# Altium footprint library SSL-2020-PcbLib1.PcbLib: 31 footprints (part 2 of 2)
Each footprint in its own frame and in the unit in brackets; x right, y up, seen from the top. Pads: shape width x height; smd on the part's side, far side on the other; paste and mask are expansions set on the pad; w line width, h text height; cw(c..) or ccw(c..) is an arc to the next point about the centre after c.
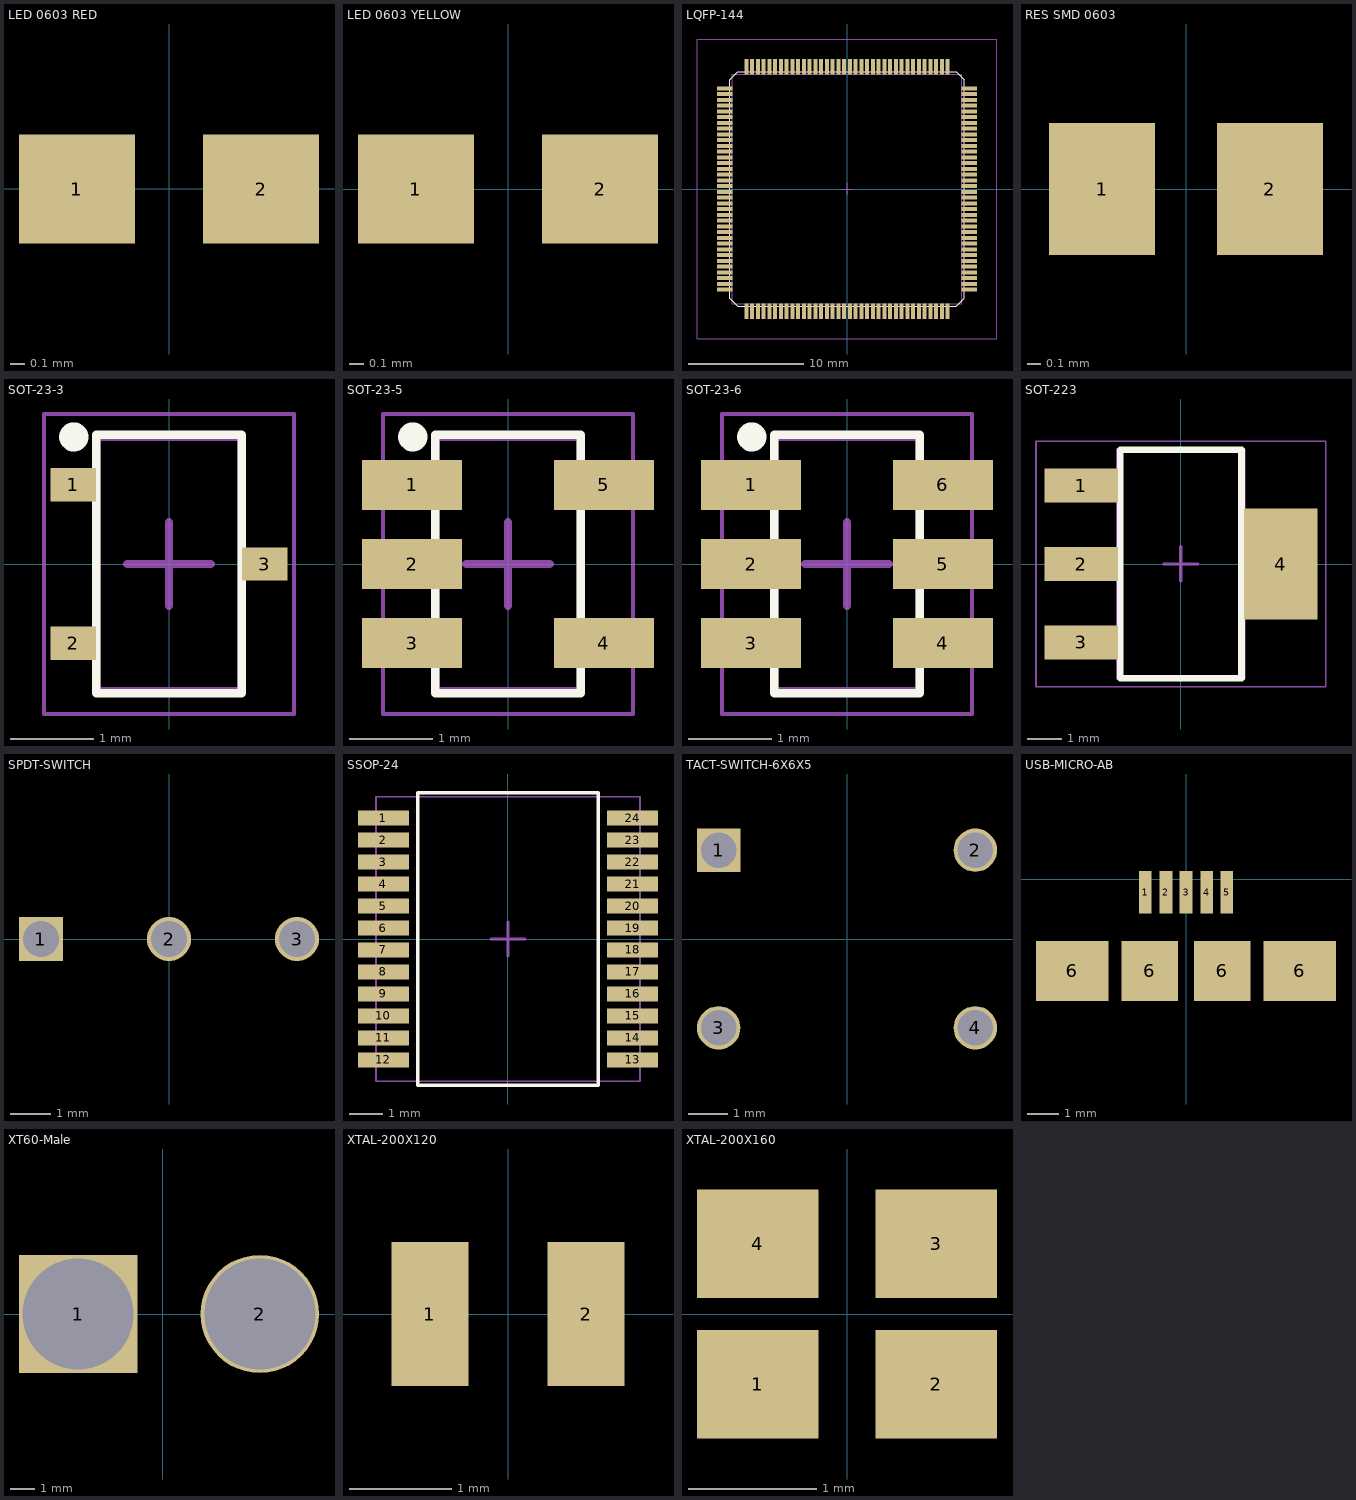
[diagram p1: the footprints below, top view; thin cyan lines are the x and y axes]

## LED 0603 RED [mm]
pads (2):
  rect 0.8x0.75 smd mask+0.05: 1(-0.635,0) 2(0.635,0)
3D body "LED_0603_R.STEP": height 0.6, standoff 0, extent -0.8,-0.4 0.8,0.4

## LED 0603 YELLOW [mm]
pads (2):
  rect 0.8x0.75 smd mask+0.05: 1(-0.635,0) 2(0.635,0)
3D body "LED_0603_Y.STEP": height 0.6, standoff 0, extent -0.8,-0.4 0.8,0.4

## LQFP-144 [mm]
height 1.6
pads (144):
  rect 1.35x0.35 smd: 1(-10.625,8.75) 2(-10.625,8.25) 3(-10.625,7.75) 4(-10.625,7.25) 5(-10.625,6.75) 6(-10.625,6.25) 7(-10.625,5.75) 8(-10.625,5.25) 9(-10.625,4.75) 10(-10.625,4.25) 11(-10.625,3.75) 12(-10.625,3.25) 13(-10.625,2.75) 14(-10.625,2.25) 15(-10.625,1.75) 16(-10.625,1.25) 17(-10.625,0.75) 18(-10.625,0.25) 19(-10.625,-0.25) 20(-10.625,-0.75) 21(-10.625,-1.25) 22(-10.625,-1.75) 23(-10.625,-2.25) 24(-10.625,-2.75) 25(-10.625,-3.25) 26(-10.625,-3.75) 27(-10.625,-4.25) 28(-10.625,-4.75) 29(-10.625,-5.25) 30(-10.625,-5.75) 31(-10.625,-6.25) 32(-10.625,-6.75) 33(-10.625,-7.25) 34(-10.625,-7.75) 35(-10.625,-8.25) 36(-10.625,-8.75) 73(10.625,-8.75) 74(10.625,-8.25) 75(10.625,-7.75) 76(10.625,-7.25) 77(10.625,-6.75) 78(10.625,-6.25) 79(10.625,-5.75) 80(10.625,-5.25) 81(10.625,-4.75) 82(10.625,-4.25) 83(10.625,-3.75) 84(10.625,-3.25) 85(10.625,-2.75) 86(10.625,-2.25) 87(10.625,-1.75) 88(10.625,-1.25) 89(10.625,-0.75) 90(10.625,-0.25) 91(10.625,0.25) 92(10.625,0.75) 93(10.625,1.25) 94(10.625,1.75) 95(10.625,2.25) 96(10.625,2.75) 97(10.625,3.25) 98(10.625,3.75) 99(10.625,4.25) 100(10.625,4.75) 101(10.625,5.25) 102(10.625,5.75) 103(10.625,6.25) 104(10.625,6.75) 105(10.625,7.25) 106(10.625,7.75) 107(10.625,8.25) 108(10.625,8.75)
  rect 0.35x1.35 smd: 37(-8.75,-10.625) 38(-8.25,-10.625) 39(-7.75,-10.625) 40(-7.25,-10.625) 41(-6.75,-10.625) 42(-6.25,-10.625) 43(-5.75,-10.625) 44(-5.25,-10.625) 45(-4.75,-10.625) 46(-4.25,-10.625) 47(-3.75,-10.625) 48(-3.25,-10.625) 49(-2.75,-10.625) 50(-2.25,-10.625) 51(-1.75,-10.625) 52(-1.25,-10.625) 53(-0.75,-10.625) 54(-0.25,-10.625) 55(0.25,-10.625) 56(0.75,-10.625) 57(1.25,-10.625) 58(1.75,-10.625) 59(2.25,-10.625) 60(2.75,-10.625) 61(3.25,-10.625) 62(3.75,-10.625) 63(4.25,-10.625) 64(4.75,-10.625) 65(5.25,-10.625) 66(5.75,-10.625) 67(6.25,-10.625) 68(6.75,-10.625) 69(7.25,-10.625) 70(7.75,-10.625) 71(8.25,-10.625) 72(8.75,-10.625) 109(8.75,10.625) 110(8.25,10.625) 111(7.75,10.625) 112(7.25,10.625) 113(6.75,10.625) 114(6.25,10.625) 115(5.75,10.625) 116(5.25,10.625) 117(4.75,10.625) 118(4.25,10.625) 119(3.75,10.625) 120(3.25,10.625) 121(2.75,10.625) 122(2.25,10.625) 123(1.75,10.625) 124(1.25,10.625) 125(0.75,10.625) 126(0.25,10.625) 127(-0.25,10.625) 128(-0.75,10.625) 129(-1.25,10.625) 130(-1.75,10.625) 131(-2.25,10.625) 132(-2.75,10.625) 133(-3.25,10.625) 134(-3.75,10.625) 135(-4.25,10.625) 136(-4.75,10.625) 137(-5.25,10.625) 138(-5.75,10.625) 139(-6.25,10.625) 140(-6.75,10.625) 141(-7.25,10.625) 142(-7.75,10.625) 143(-8.25,10.625) 144(-8.75,10.625)
Top Overlay:
  lines w0.1: -10.2,-9.485 -10.2,9.485 -9.485,10.2 9.485,10.2 10.2,9.485 10.2,-9.485 9.485,-10.2 -9.485,-10.2 -10.2,-9.485
Mechanical 13:
  lines w0.1: -10,-10 -10,10 10,10 10,-10 -10,-10
Mechanical 15:
  lines w0.05: -13.05,-13.05 -13.05,13.05 13.05,13.05 13.05,-13.05 -13.05,-13.05
  lines w0.1: -0.5,0 0.5,0 ; 0,-0.5 0,0.5
3D body "LQFP144.STEP": height 1.58, standoff -0.02, extent -11.049,-10.951 10.951,11.049

## RES SMD 0603 [mm]
pads (2):
  rect 0.8x1 smd mask+0.05: 1(-0.635,0) 2(0.635,0)
3D body "RES SMD 0603.STEP": height 0.5, standoff 0, extent -0.8,-0.45 0.8,0.45

## SOT-23-3 [mm]
height 1.45
pads (3):
  rect 0.55x0.4 smd: 1(-1.15,0.95) 2(-1.15,-0.95) 3(1.15,0)
Top Overlay:
  circle w0.25: c-1.143,1.525 r0.05
  lines w0.1: -0.875,-1.55 -0.875,1.55 0.875,1.55 0.875,-1.55 -0.875,-1.55
Mechanical 13:
  lines w0.1: -0.875,-1.525 0.875,-1.525 0.875,1.525 -0.875,1.525 -0.875,-1.525
Mechanical 15:
  lines w0.05: -1.5,-1.8 1.5,-1.8 1.5,1.8 -1.5,1.8 -1.5,-1.8
  lines w0.1: -0.5,0 0.5,0 ; 0,-0.5 0,0.5
3D body "SOT23-3.stp": height 1.2, standoff 0.02, extent -1.418,-1.5 1.417,1.5

## SOT-23-5 [mm]
height 1.45
pads (5):
  rect 1.2x0.6 smd mask+0.05: 1(-1.15,0.95) 2(-1.15,0) 3(-1.15,-0.95) 4(1.15,-0.95) 5(1.15,0.95)
Top Overlay:
  circle w0.25: c-1.143,1.525 r0.05
  lines w0.1: -0.875,-1.55 -0.875,1.55 0.875,1.55 0.875,-1.55 -0.875,-1.55
Mechanical 13:
  lines w0.1: -0.875,-1.525 0.875,-1.525 0.875,1.525 -0.875,1.525 -0.875,-1.525
Mechanical 15:
  lines w0.05: -1.5,-1.8 1.5,-1.8 1.5,1.8 -1.5,1.8 -1.5,-1.8
  lines w0.1: -0.5,0 0.5,0 ; 0,-0.5 0,0.5
3D body "SOT23_5.stp": height 0.92, standoff 0.01, extent -1.602,-1.55 1.602,1.45

## SOT-23-6 [mm]
height 1.45
pads (6):
  rect 1.2x0.6 smd mask+0.05: 1(-1.15,0.95) 2(-1.15,0) 3(-1.15,-0.95) 4(1.15,-0.95) 5(1.15,0) 6(1.15,0.95)
Top Overlay:
  circle w0.25: c-1.143,1.525 r0.05
  lines w0.1: -0.875,-1.55 -0.875,1.55 0.875,1.55 0.875,-1.55 -0.875,-1.55
Mechanical 13:
  lines w0.1: -0.875,-1.525 0.875,-1.525 0.875,1.525 -0.875,1.525 -0.875,-1.525
Mechanical 15:
  lines w0.05: -1.5,-1.8 1.5,-1.8 1.5,1.8 -1.5,1.8 -1.5,-1.8
  lines w0.1: -0.5,0 0.5,0 ; 0,-0.5 0,0.5
3D body "SOT-23-6-3.step": height 0.86, standoff 0, extent -1.397,-1.476 1.413,1.524

## SOT-223 [mm]
pads (4):
  rect 2.15x1 smd: 1(-2.925,2.3) 2(-2.925,0) 3(-2.925,-2.3)
  rect 2.15x3.25 smd: 4(2.925,0)
Top Overlay:
  lines w0.2: -1.778,-3.35 -1.778,3.35 1.778,3.35 1.778,-3.35 -1.778,-3.35
Mechanical 13:
  lines w0.1: -1.85,-3.35 -1.85,3.35 1.85,3.35 1.85,-3.35 -1.85,-3.35
Mechanical 15:
  lines w0.05: -4.25,-3.6 -4.25,3.6 4.25,3.6 4.25,-3.6 -4.25,-3.6
  lines w0.1: -0.5,0 0.5,0 ; 0,-0.5 0,0.5
3D body "SOT-223.step": height 1.65, standoff -0.03, extent -3.48,-3.25 3.48,3.25

## SPDT-SWITCH [mm]
pads (3):
  rect 1.1x1.1 hole 0.9: 1(-3.2,0)
  round 1.1 hole 0.9: 2(0,0) 3(3.2,0)
via 6.477,2.921 diameter 1.3 hole 1.2
via -6.477,-2.921 diameter 1.3 hole 1.2
via 6.477,-2.921 diameter 1.3 hole 1.2
via -6.477,2.921 diameter 1.3 hole 1.2
3D body "Slide-Switch.STEP": height 9.65, standoff -2.6, extent -7,-3.1 7,3.1

## SSOP-24 [mm] "SOIC, 24-Leads, Pitch 0.65mm"
height 1.2
pads (24):
  rect 1.5x0.45 smd: 1(-3.683,3.575) 2(-3.683,2.925) 3(-3.683,2.275) 4(-3.683,1.625) 5(-3.683,0.975) 6(-3.683,0.325) 7(-3.683,-0.325) 8(-3.683,-0.975) 9(-3.683,-1.625) 10(-3.683,-2.275) 11(-3.683,-2.925) 12(-3.683,-3.575) 13(3.683,-3.575) 14(3.683,-2.925) 15(3.683,-2.275) 16(3.683,-1.625) 17(3.683,-0.975) 18(3.683,-0.325) 19(3.683,0.325) 20(3.683,0.975) 21(3.683,1.625) 22(3.683,2.275) 23(3.683,2.925) 24(3.683,3.575)
Top Overlay:
  lines w0.1: -2.667,-4.318 -2.667,4.318 2.667,4.318 2.667,-4.318 -2.667,-4.318
Mechanical 15:
  lines w0.05: -3.9,-4.2 3.9,-4.2 3.9,4.2 -3.9,4.2 -3.9,-4.2
  lines w0.1: -0.5,0 0.5,0 ; 0,-0.5 0,0.5
3D body "SSOP-24.step": height 1.95, standoff -0.04, extent -3.95,-4.315 3.95,4.315

## TACT-SWITCH-6X6X5 [mm]
pads (4):
  rect 1.1x1.1 hole 0.9: 1(-3.25,2.25)
  round 1.1 hole 0.9: 2(3.25,2.25) 3(-3.25,-2.25) 4(3.25,-2.25)
3D body "Tactile-Switch-6x6x5.step": height 5.01, standoff -3.51, extent -3.872,-3.015 3.871,3.015

## USB-MICRO-AB [mm] "USB-Connector"
pads (9):
  rect 0.4x1.35 smd: 1(-1.295,-0.406) 2(-0.635,-0.406) 3(0,-0.406) 4(0.66,-0.406) 5(1.295,-0.406)
  rect 2.3x1.9 smd: 6(-3.6,-2.9) 6(3.6,-2.9)
  rect 1.8x1.9 smd: 6(-1.15,-2.9) 6(1.15,-2.9)
3D body: height 0.25, standoff 0, extent 0.965,0.991 0.965,0.991
3D body "USB MICRO AB.stp": height 2.78, standoff -0.28, extent -4.4,-5.727 4.4,-0.127

## XT60-Male [mm]
pads (2):
  rect 4.8x4.8 hole 4.5: 1(-3.429,0)
  round 4.8 hole 4.5: 2(3.937,0)
3D body "XT60 male.step": height 16.2, standoff -5, extent -7.95,-4.086 7.95,4.064

## XTAL-200X120 [mm]
pads (2):
  rect 0.75x1.4 smd mask+0.05: 1(-0.762,0) 2(0.762,0)
3D body "XTAL-20X12.step": height 0.6, standoff 0, extent -1,-0.6 1,0.6

## XTAL-200X160 [mm]
pads (4):
  rect 0.95x0.85 smd mask+0.05: 1(-0.7,-0.55) 2(0.7,-0.55) 3(0.7,0.55) 4(-0.7,0.55)
3D body "XTAL-20X16.step": height 0.56, standoff 0, extent -1.05,-0.85 1.05,0.85